# EAGLE library part PI3518-I-D-220VAC/6VAC (library prj_snowmaker)
PE系列PCB板焊接式安全隔离变压器 www.yhdc.com 本项目选择： 输入电压：220ACV 输出电压：6VAC，空载 8.2V
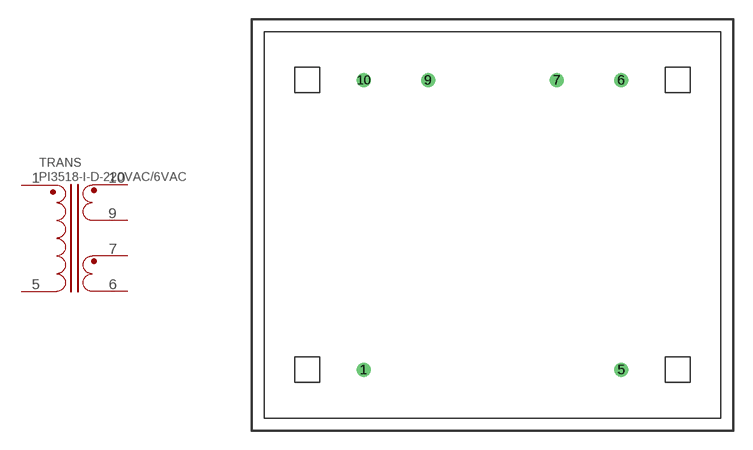
[diagram p7: symbol with the pads of PE3518-I; footprint PE3518-I]

Designator prefix TRANS

## PI3518-I-D-220VAC/6VAC  [PE3518-I]
1  1  pas
5  5  pas
6  6  pas
7  7  pas
9  9  pas
10  10  pas

## Footprint PE3518-I (pad centres in mm)
PE系列PCB板焊接式安全隔离变压器 www.yhdc.com
drill 0.6: 1 -10.16,-11.43; 5 10.16,-11.43; 6 10.16,11.43; 7 5.08,11.43; 9 -5.08,11.43; 10 -10.16,11.43